# EAGLE library part 691411710017 (library Wurth_Elektronik_Electromechanic_Terminal_Blocks_Connectors_rev16b)
WR-TBL Terminal block - serie 411 5,0mm - Spring clamp/Screw less - Horizontal entry - 24p Code:Con_TBL_Screwless_5.00_6914117100xxB Created 2014-12-22, aslant tao 2014 (C) Würth Elektronik
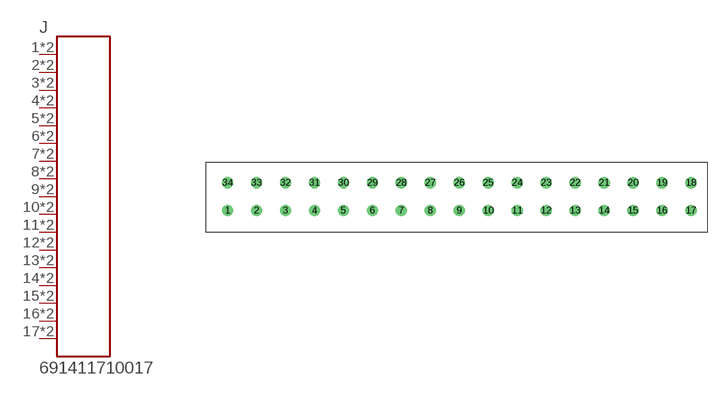
[diagram p282: symbol with the pads of 691411710017; footprint 691411710017]

Designator prefix J

## 691411710017  [691411710017]
1  1  pas
2  2  pas
3  3  pas
4  4  pas
5  5  pas
6  6  pas
7  7  pas
8  8  pas
9  9  pas
10  10  pas
11  11  pas
12  12  pas
13  13  pas
14  14  pas
15  15  pas
16  16  pas
17  17  pas
18  17  pas
19  16  pas
20  15  pas
21  14  pas
22  13  pas
23  12  pas
24  11  pas
25  10  pas
26  9  pas
27  8  pas
28  7  pas
29  6  pas
30  5  pas
31  4  pas
32  3  pas
33  2  pas
34  1  pas

## Footprint 691411710017 (pad centres in mm)
WR-TBL Serie 411 - 5.0mm Screwless Horizontal Entry - 2 mm2 Wires, 17 Pins
drill 1.3: 1 -15,0; 2 -10,0; 3 -5,0; 4 0,0; 5 5,0; 6 10,0; 7 15,0; 8 20,0; 9 25,0; 10 30,0; 11 35,0; 12 40,0; 13 45,0; 14 50,0; 15 55,0; 16 60,0; 17 65,0; 18 65,4.8; 19 60,4.8; 20 55,4.8; 21 50,4.8; 22 45,4.8; 23 40,4.8; 24 35,4.8; 25 30,4.8; 26 25,4.8; 27 20,4.8; 28 15,4.8; 29 10,4.8; 30 5,4.8; 31 0,4.8; 32 -5,4.8; 33 -10,4.8; 34 -15,4.8